# Altium footprint library MicroCrystal.PcbLib: 1 footprints
Each footprint in its own frame and in the unit in brackets; x right, y up, seen from the top. Pads: shape width x height; smd on the part's side, far side on the other; paste and mask are expansions set on the pad; w line width, h text height; cw(c..) or ccw(c..) is an arc to the next point about the centre after c.
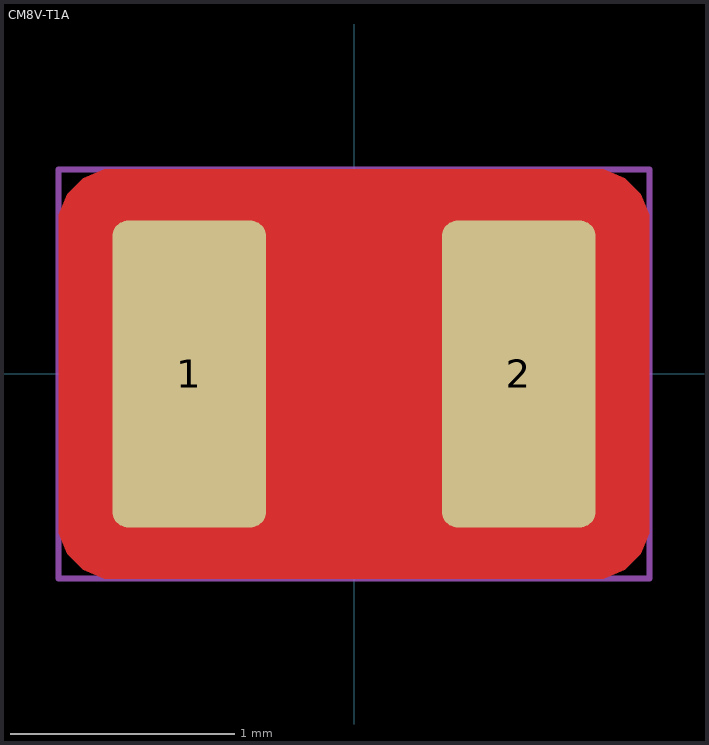
[diagram p0: the footprint, top view; thin cyan lines are the x and y axes]

## CM8V-T1A [mil]
height 40
pads (2):
  rrect20% 27x54 smd paste-2 mask+2: 1(-29,0) 2(29,0)
Top Layer:
  pour cut-out: -42,36 -43.99,36 -47.66,34.48 -50.48,31.66 -52,27.99 -52,26 -52,-26 -52,-27.99 -50.48,-31.66 -47.67,-34.48 -43.99,-36 -42,-36 42,-36 43.99,-36 47.66,-34.48 50.48,-31.66 52,-27.99 52,-26 52,26 52,27.99 50.48,31.66 47.66,34.48 43.99,36 42,36
Top Designator:
  text ".Designator" at -127.64,-12.5 h35
Top Courtyard:
  lines w1: -52,-36 52,-36 52,36 -52,36 -52,-36
3D body "crystal_rtf2012.stp": height 23.62, standoff -0.24, extent -39.37,-23.62 39.37,23.63